# Altium integrated library Zilog Microprocessor 16-Bit.IntLib: 20 symbols
Pins are listed as number, name and electrical type; pins without a type are passive.

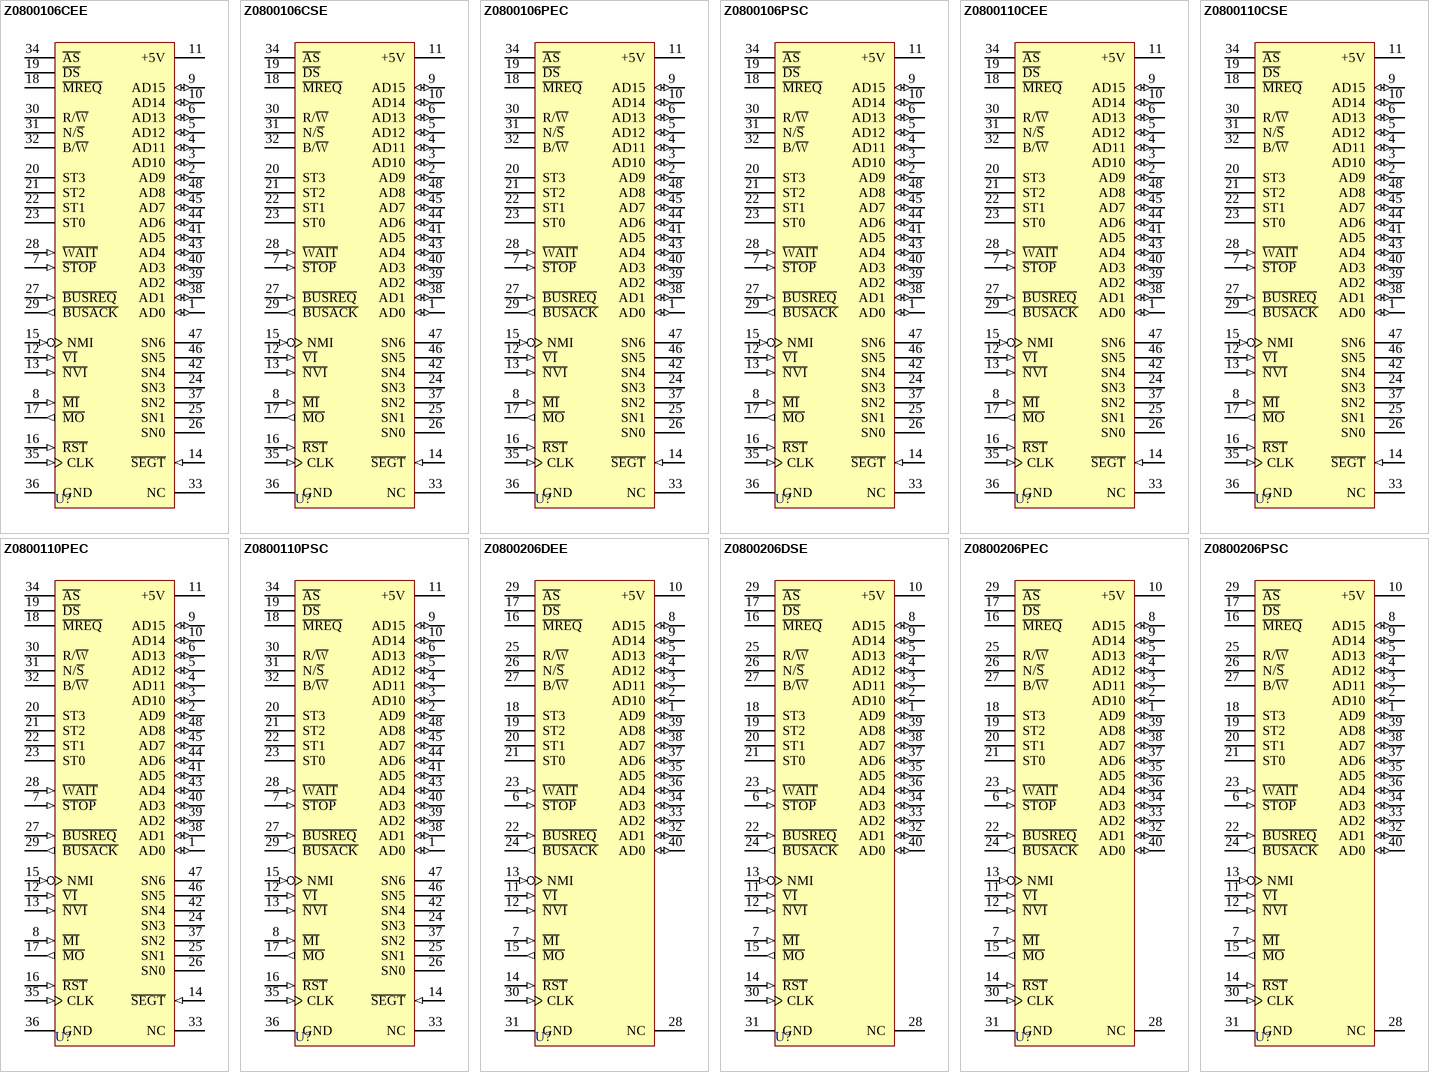
[diagram p0: symbols Z0800106CEE to Z0800206PSC]

## Z0800106CEE
designator U?
16-Bit Microprocessor; Published: 15-Apr-2002; LatestRevisionDate: 04-Mar-2005; LatestRevisionNote: Stylized 3D Model Added.; DatasheetVersion: Oct-1988; PackageVersion: 2001; PackageReference: CDIP48; Publisher: Altium Limited; PackageDescription: DIP; 48 Leads; Row Spacing 15.24 mm; Pitch 2.54 mm; ComponentLink1Description: Manufacturer Link; ComponentLink1URL: http://www.zilog.com/
footprint CDIP48 (DIP; 48 Leads; Row Spacing 15.24 mm; Pitch 2.54 mm)
3D model CDIP48 (DIP; 48 Leads; Row Spacing 15.24 mm; Pitch 2.54 mm)
pins: 1 AD0 (io), 2 AD9 (io), 3 AD10 (io), 4 AD11 (io), 5 AD12 (io), 6 AD13 (io), 7 ~{STOP} (in), 8 ~{MI} (in), 9 AD15 (io), 10 AD14 (io), 11 +5V (power), 12 ~{VI} (in), 13 ~{NVI} (in), 14 ~{SEGT} (in), 15 NMI (in), 16 ~{RST} (in), 17 ~{MO} (out), 18 ~{MREQ} (hiz), 19 ~{DS} (hiz), 20 ST3 (hiz), 21 ST2 (hiz), 22 ST1 (hiz), 23 ST0 (hiz), 24 SN3 (hiz), 25 SN1 (hiz), 26 SN0 (hiz), 27 ~{BUSREQ} (in), 28 ~{WAIT} (in), 29 ~{BUSACK} (out), 30 R/~{W} (hiz), 31 N/~{S} (hiz), 32 B/~{W} (hiz), 33 NC, 34 ~{AS} (hiz), 35 CLK (in), 36 GND (power), 37 SN2 (hiz), 38 AD1 (io), 39 AD2 (io), 40 AD3 (io), 41 AD5 (io), 42 SN4 (hiz), 43 AD4 (io), 44 AD6 (io), 45 AD7 (io), 46 SN5 (hiz), 47 SN6 (hiz), 48 AD8 (io)

## Z0800106CSE
designator U?
16-Bit Microprocessor; Published: 15-Apr-2002; LatestRevisionDate: 04-Mar-2005; LatestRevisionNote: Stylized 3D Model Added.; DatasheetVersion: Oct-1988; PackageVersion: 2001; PackageReference: CDIP48; Publisher: Altium Limited; PackageDescription: DIP; 48 Leads; Row Spacing 15.24 mm; Pitch 2.54 mm; ComponentLink1Description: Manufacturer Link; ComponentLink1URL: http://www.zilog.com/
footprint CDIP48 (DIP; 48 Leads; Row Spacing 15.24 mm; Pitch 2.54 mm)
3D model CDIP48 (DIP; 48 Leads; Row Spacing 15.24 mm; Pitch 2.54 mm)
pins: 1 AD0 (io), 2 AD9 (io), 3 AD10 (io), 4 AD11 (io), 5 AD12 (io), 6 AD13 (io), 7 ~{STOP} (in), 8 ~{MI} (in), 9 AD15 (io), 10 AD14 (io), 11 +5V (power), 12 ~{VI} (in), 13 ~{NVI} (in), 14 ~{SEGT} (in), 15 NMI (in), 16 ~{RST} (in), 17 ~{MO} (out), 18 ~{MREQ} (hiz), 19 ~{DS} (hiz), 20 ST3 (hiz), 21 ST2 (hiz), 22 ST1 (hiz), 23 ST0 (hiz), 24 SN3 (hiz), 25 SN1 (hiz), 26 SN0 (hiz), 27 ~{BUSREQ} (in), 28 ~{WAIT} (in), 29 ~{BUSACK} (out), 30 R/~{W} (hiz), 31 N/~{S} (hiz), 32 B/~{W} (hiz), 33 NC, 34 ~{AS} (hiz), 35 CLK (in), 36 GND (power), 37 SN2 (hiz), 38 AD1 (io), 39 AD2 (io), 40 AD3 (io), 41 AD5 (io), 42 SN4 (hiz), 43 AD4 (io), 44 AD6 (io), 45 AD7 (io), 46 SN5 (hiz), 47 SN6 (hiz), 48 AD8 (io)

## Z0800106PEC
designator U?
16-Bit Microprocessor; Published: 15-Apr-2002; LatestRevisionDate: 04-Mar-2005; LatestRevisionNote: Stylized 3D Model Added.; DatasheetVersion: Oct-1988; PackageVersion: 2001; PackageReference: PDIP48; Publisher: Altium Limited; PackageDescription: DIP; 48 Leads; Row Spacing 15.24 mm; Pitch 2.54 mm; ComponentLink1Description: Manufacturer Link; ComponentLink1URL: http://www.zilog.com/
footprint PDIP48 (DIP; 48 Leads; Row Spacing 15.24 mm; Pitch 2.54 mm)
3D model PDIP48 (DIP; 48 Leads; Row Spacing 15.24 mm; Pitch 2.54 mm)
pins: 1 AD0 (io), 2 AD9 (io), 3 AD10 (io), 4 AD11 (io), 5 AD12 (io), 6 AD13 (io), 7 ~{STOP} (in), 8 ~{MI} (in), 9 AD15 (io), 10 AD14 (io), 11 +5V (power), 12 ~{VI} (in), 13 ~{NVI} (in), 14 ~{SEGT} (in), 15 NMI (in), 16 ~{RST} (in), 17 ~{MO} (out), 18 ~{MREQ} (hiz), 19 ~{DS} (hiz), 20 ST3 (hiz), 21 ST2 (hiz), 22 ST1 (hiz), 23 ST0 (hiz), 24 SN3 (hiz), 25 SN1 (hiz), 26 SN0 (hiz), 27 ~{BUSREQ} (in), 28 ~{WAIT} (in), 29 ~{BUSACK} (out), 30 R/~{W} (hiz), 31 N/~{S} (hiz), 32 B/~{W} (hiz), 33 NC, 34 ~{AS} (hiz), 35 CLK (in), 36 GND (power), 37 SN2 (hiz), 38 AD1 (io), 39 AD2 (io), 40 AD3 (io), 41 AD5 (io), 42 SN4 (hiz), 43 AD4 (io), 44 AD6 (io), 45 AD7 (io), 46 SN5 (hiz), 47 SN6 (hiz), 48 AD8 (io)

## Z0800106PSC
designator U?
16-Bit Microprocessor; Published: 15-Apr-2002; LatestRevisionDate: 04-Mar-2005; LatestRevisionNote: Stylized 3D Model Added.; DatasheetVersion: Oct-1988; PackageVersion: 2001; PackageReference: PDIP48; Publisher: Altium Limited; PackageDescription: DIP; 48 Leads; Row Spacing 15.24 mm; Pitch 2.54 mm; ComponentLink1Description: Manufacturer Link; ComponentLink1URL: http://www.zilog.com/
footprint PDIP48 (DIP; 48 Leads; Row Spacing 15.24 mm; Pitch 2.54 mm)
3D model PDIP48 (DIP; 48 Leads; Row Spacing 15.24 mm; Pitch 2.54 mm)
pins: 1 AD0 (io), 2 AD9 (io), 3 AD10 (io), 4 AD11 (io), 5 AD12 (io), 6 AD13 (io), 7 ~{STOP} (in), 8 ~{MI} (in), 9 AD15 (io), 10 AD14 (io), 11 +5V (power), 12 ~{VI} (in), 13 ~{NVI} (in), 14 ~{SEGT} (in), 15 NMI (in), 16 ~{RST} (in), 17 ~{MO} (out), 18 ~{MREQ} (hiz), 19 ~{DS} (hiz), 20 ST3 (hiz), 21 ST2 (hiz), 22 ST1 (hiz), 23 ST0 (hiz), 24 SN3 (hiz), 25 SN1 (hiz), 26 SN0 (hiz), 27 ~{BUSREQ} (in), 28 ~{WAIT} (in), 29 ~{BUSACK} (out), 30 R/~{W} (hiz), 31 N/~{S} (hiz), 32 B/~{W} (hiz), 33 NC, 34 ~{AS} (hiz), 35 CLK (in), 36 GND (power), 37 SN2 (hiz), 38 AD1 (io), 39 AD2 (io), 40 AD3 (io), 41 AD5 (io), 42 SN4 (hiz), 43 AD4 (io), 44 AD6 (io), 45 AD7 (io), 46 SN5 (hiz), 47 SN6 (hiz), 48 AD8 (io)

## Z0800110CEE
designator U?
16-Bit Microprocessor; Published: 15-Apr-2002; LatestRevisionDate: 04-Mar-2005; LatestRevisionNote: Stylized 3D Model Added.; DatasheetVersion: Oct-1988; PackageVersion: 2001; PackageReference: CDIP48; Publisher: Altium Limited; PackageDescription: DIP; 48 Leads; Row Spacing 15.24 mm; Pitch 2.54 mm; ComponentLink1Description: Manufacturer Link; ComponentLink1URL: http://www.zilog.com/
footprint CDIP48 (DIP; 48 Leads; Row Spacing 15.24 mm; Pitch 2.54 mm)
3D model CDIP48 (DIP; 48 Leads; Row Spacing 15.24 mm; Pitch 2.54 mm)
pins: 1 AD0 (io), 2 AD9 (io), 3 AD10 (io), 4 AD11 (io), 5 AD12 (io), 6 AD13 (io), 7 ~{STOP} (in), 8 ~{MI} (in), 9 AD15 (io), 10 AD14 (io), 11 +5V (power), 12 ~{VI} (in), 13 ~{NVI} (in), 14 ~{SEGT} (in), 15 NMI (in), 16 ~{RST} (in), 17 ~{MO} (out), 18 ~{MREQ} (hiz), 19 ~{DS} (hiz), 20 ST3 (hiz), 21 ST2 (hiz), 22 ST1 (hiz), 23 ST0 (hiz), 24 SN3 (hiz), 25 SN1 (hiz), 26 SN0 (hiz), 27 ~{BUSREQ} (in), 28 ~{WAIT} (in), 29 ~{BUSACK} (out), 30 R/~{W} (hiz), 31 N/~{S} (hiz), 32 B/~{W} (hiz), 33 NC, 34 ~{AS} (hiz), 35 CLK (in), 36 GND (power), 37 SN2 (hiz), 38 AD1 (io), 39 AD2 (io), 40 AD3 (io), 41 AD5 (io), 42 SN4 (hiz), 43 AD4 (io), 44 AD6 (io), 45 AD7 (io), 46 SN5 (hiz), 47 SN6 (hiz), 48 AD8 (io)

## Z0800110CSE
designator U?
16-Bit Microprocessor; Published: 15-Apr-2002; LatestRevisionDate: 04-Mar-2005; LatestRevisionNote: Stylized 3D Model Added.; DatasheetVersion: Oct-1988; PackageVersion: 2001; PackageReference: CDIP48; Publisher: Altium Limited; PackageDescription: DIP; 48 Leads; Row Spacing 15.24 mm; Pitch 2.54 mm; ComponentLink1Description: Manufacturer Link; ComponentLink1URL: http://www.zilog.com/
footprint CDIP48 (DIP; 48 Leads; Row Spacing 15.24 mm; Pitch 2.54 mm)
3D model CDIP48 (DIP; 48 Leads; Row Spacing 15.24 mm; Pitch 2.54 mm)
pins: 1 AD0 (io), 2 AD9 (io), 3 AD10 (io), 4 AD11 (io), 5 AD12 (io), 6 AD13 (io), 7 ~{STOP} (in), 8 ~{MI} (in), 9 AD15 (io), 10 AD14 (io), 11 +5V (power), 12 ~{VI} (in), 13 ~{NVI} (in), 14 ~{SEGT} (in), 15 NMI (in), 16 ~{RST} (in), 17 ~{MO} (out), 18 ~{MREQ} (hiz), 19 ~{DS} (hiz), 20 ST3 (hiz), 21 ST2 (hiz), 22 ST1 (hiz), 23 ST0 (hiz), 24 SN3 (hiz), 25 SN1 (hiz), 26 SN0 (hiz), 27 ~{BUSREQ} (in), 28 ~{WAIT} (in), 29 ~{BUSACK} (out), 30 R/~{W} (hiz), 31 N/~{S} (hiz), 32 B/~{W} (hiz), 33 NC, 34 ~{AS} (hiz), 35 CLK (in), 36 GND (power), 37 SN2 (hiz), 38 AD1 (io), 39 AD2 (io), 40 AD3 (io), 41 AD5 (io), 42 SN4 (hiz), 43 AD4 (io), 44 AD6 (io), 45 AD7 (io), 46 SN5 (hiz), 47 SN6 (hiz), 48 AD8 (io)

## Z0800110PEC
designator U?
16-Bit Microprocessor; Published: 15-Apr-2002; LatestRevisionDate: 04-Mar-2005; LatestRevisionNote: Stylized 3D Model Added.; DatasheetVersion: Oct-1988; PackageVersion: 2001; PackageReference: PDIP48; Publisher: Altium Limited; PackageDescription: DIP; 48 Leads; Row Spacing 15.24 mm; Pitch 2.54 mm; ComponentLink1Description: Manufacturer Link; ComponentLink1URL: http://www.zilog.com/
footprint PDIP48 (DIP; 48 Leads; Row Spacing 15.24 mm; Pitch 2.54 mm)
3D model PDIP48 (DIP; 48 Leads; Row Spacing 15.24 mm; Pitch 2.54 mm)
pins: 1 AD0 (io), 2 AD9 (io), 3 AD10 (io), 4 AD11 (io), 5 AD12 (io), 6 AD13 (io), 7 ~{STOP} (in), 8 ~{MI} (in), 9 AD15 (io), 10 AD14 (io), 11 +5V (power), 12 ~{VI} (in), 13 ~{NVI} (in), 14 ~{SEGT} (in), 15 NMI (in), 16 ~{RST} (in), 17 ~{MO} (out), 18 ~{MREQ} (hiz), 19 ~{DS} (hiz), 20 ST3 (hiz), 21 ST2 (hiz), 22 ST1 (hiz), 23 ST0 (hiz), 24 SN3 (hiz), 25 SN1 (hiz), 26 SN0 (hiz), 27 ~{BUSREQ} (in), 28 ~{WAIT} (in), 29 ~{BUSACK} (out), 30 R/~{W} (hiz), 31 N/~{S} (hiz), 32 B/~{W} (hiz), 33 NC, 34 ~{AS} (hiz), 35 CLK (in), 36 GND (power), 37 SN2 (hiz), 38 AD1 (io), 39 AD2 (io), 40 AD3 (io), 41 AD5 (io), 42 SN4 (hiz), 43 AD4 (io), 44 AD6 (io), 45 AD7 (io), 46 SN5 (hiz), 47 SN6 (hiz), 48 AD8 (io)

## Z0800110PSC
designator U?
16-Bit Microprocessor; Published: 15-Apr-2002; LatestRevisionDate: 04-Mar-2005; LatestRevisionNote: Stylized 3D Model Added.; DatasheetVersion: Oct-1988; PackageVersion: 2001; PackageReference: PDIP48; Publisher: Altium Limited; PackageDescription: DIP; 48 Leads; Row Spacing 15.24 mm; Pitch 2.54 mm; ComponentLink1Description: Manufacturer Link; ComponentLink1URL: http://www.zilog.com/
footprint PDIP48 (DIP; 48 Leads; Row Spacing 15.24 mm; Pitch 2.54 mm)
3D model PDIP48 (DIP; 48 Leads; Row Spacing 15.24 mm; Pitch 2.54 mm)
pins: 1 AD0 (io), 2 AD9 (io), 3 AD10 (io), 4 AD11 (io), 5 AD12 (io), 6 AD13 (io), 7 ~{STOP} (in), 8 ~{MI} (in), 9 AD15 (io), 10 AD14 (io), 11 +5V (power), 12 ~{VI} (in), 13 ~{NVI} (in), 14 ~{SEGT} (in), 15 NMI (in), 16 ~{RST} (in), 17 ~{MO} (out), 18 ~{MREQ} (hiz), 19 ~{DS} (hiz), 20 ST3 (hiz), 21 ST2 (hiz), 22 ST1 (hiz), 23 ST0 (hiz), 24 SN3 (hiz), 25 SN1 (hiz), 26 SN0 (hiz), 27 ~{BUSREQ} (in), 28 ~{WAIT} (in), 29 ~{BUSACK} (out), 30 R/~{W} (hiz), 31 N/~{S} (hiz), 32 B/~{W} (hiz), 33 NC, 34 ~{AS} (hiz), 35 CLK (in), 36 GND (power), 37 SN2 (hiz), 38 AD1 (io), 39 AD2 (io), 40 AD3 (io), 41 AD5 (io), 42 SN4 (hiz), 43 AD4 (io), 44 AD6 (io), 45 AD7 (io), 46 SN5 (hiz), 47 SN6 (hiz), 48 AD8 (io)

## Z0800206DEE
designator U?
16-Bit Microprocessor; Published: 15-Apr-2002; LatestRevisionDate: 04-Mar-2005; LatestRevisionNote: Stylized 3D Model Added.; DatasheetVersion: Oct-1988; PackageVersion: 1999; PackageReference: CerDIP40; Publisher: Altium Limited; PackageDescription: DIP; 40 Leads; Row Spacing 15.24 mm; Pitch 2.54 mm; ComponentLink1Description: Manufacturer Link; ComponentLink1URL: http://www.zilog.com/
footprint CerDIP40 (DIP; 40 Leads; Row Spacing 15.24 mm; Pitch 2.54 mm)
3D model PDIP40 (DIP; 40 Leads; Row Spacing 15.24 mm; Pitch 2.54 mm)
pins: 1 AD9 (io), 2 AD10 (io), 3 AD11 (io), 4 AD12 (io), 5 AD13 (io), 6 ~{STOP} (in), 7 ~{MI} (in), 8 AD15 (io), 9 AD14 (io), 10 +5V (power), 11 ~{VI} (in), 12 ~{NVI} (in), 13 NMI (in), 14 ~{RST} (in), 15 ~{MO} (out), 16 ~{MREQ} (hiz), 17 ~{DS} (hiz), 18 ST3 (hiz), 19 ST2 (hiz), 20 ST1 (hiz), 21 ST0 (hiz), 22 ~{BUSREQ} (in), 23 ~{WAIT} (in), 24 ~{BUSACK} (out), 25 R/~{W} (hiz), 26 N/~{S} (hiz), 27 B/~{W} (hiz), 28 NC, 29 ~{AS} (hiz), 30 CLK (in), 31 GND (power), 32 AD1 (io), 33 AD2 (io), 34 AD3 (io), 35 AD5 (io), 36 AD4 (io), 37 AD6 (io), 38 AD7 (io), 39 AD8 (io), 40 AD0 (io)

## Z0800206DSE
designator U?
16-Bit Microprocessor; Published: 15-Apr-2002; LatestRevisionDate: 04-Mar-2005; LatestRevisionNote: Stylized 3D Model Added.; DatasheetVersion: Oct-1988; PackageVersion: 1999; PackageReference: CerDIP40; Publisher: Altium Limited; PackageDescription: DIP; 40 Leads; Row Spacing 15.24 mm; Pitch 2.54 mm; ComponentLink1Description: Manufacturer Link; ComponentLink1URL: http://www.zilog.com/
footprint CerDIP40 (DIP; 40 Leads; Row Spacing 15.24 mm; Pitch 2.54 mm)
3D model PDIP40 (DIP; 40 Leads; Row Spacing 15.24 mm; Pitch 2.54 mm)
pins: 1 AD9 (io), 2 AD10 (io), 3 AD11 (io), 4 AD12 (io), 5 AD13 (io), 6 ~{STOP} (in), 7 ~{MI} (in), 8 AD15 (io), 9 AD14 (io), 10 +5V (power), 11 ~{VI} (in), 12 ~{NVI} (in), 13 NMI (in), 14 ~{RST} (in), 15 ~{MO} (out), 16 ~{MREQ} (hiz), 17 ~{DS} (hiz), 18 ST3 (hiz), 19 ST2 (hiz), 20 ST1 (hiz), 21 ST0 (hiz), 22 ~{BUSREQ} (in), 23 ~{WAIT} (in), 24 ~{BUSACK} (out), 25 R/~{W} (hiz), 26 N/~{S} (hiz), 27 B/~{W} (hiz), 28 NC, 29 ~{AS} (hiz), 30 CLK (in), 31 GND (power), 32 AD1 (io), 33 AD2 (io), 34 AD3 (io), 35 AD5 (io), 36 AD4 (io), 37 AD6 (io), 38 AD7 (io), 39 AD8 (io), 40 AD0 (io)

## Z0800206PEC
designator U?
16-Bit Microprocessor; Published: 15-Apr-2002; LatestRevisionDate: 04-Mar-2005; LatestRevisionNote: Stylized 3D Model Added.; DatasheetVersion: Oct-1988; PackageVersion: Jun-1999; PackageReference: PDIP40; Publisher: Altium Limited; PackageDescription: DIP; 40 Leads; Row Spacing 15.24 mm; Pitch 2.54 mm; ComponentLink1Description: Manufacturer Link; ComponentLink1URL: http://www.zilog.com/
footprint PDIP40 (DIP; 40 Leads; Row Spacing 15.24 mm; Pitch 2.54 mm)
3D model PDIP40 (DIP; 40 Leads; Row Spacing 15.24 mm; Pitch 2.54 mm)
pins: 1 AD9 (io), 2 AD10 (io), 3 AD11 (io), 4 AD12 (io), 5 AD13 (io), 6 ~{STOP} (in), 7 ~{MI} (in), 8 AD15 (io), 9 AD14 (io), 10 +5V (power), 11 ~{VI} (in), 12 ~{NVI} (in), 13 NMI (in), 14 ~{RST} (in), 15 ~{MO} (out), 16 ~{MREQ} (hiz), 17 ~{DS} (hiz), 18 ST3 (hiz), 19 ST2 (hiz), 20 ST1 (hiz), 21 ST0 (hiz), 22 ~{BUSREQ} (in), 23 ~{WAIT} (in), 24 ~{BUSACK} (out), 25 R/~{W} (hiz), 26 N/~{S} (hiz), 27 B/~{W} (hiz), 28 NC, 29 ~{AS} (hiz), 30 CLK (in), 31 GND (power), 32 AD1 (io), 33 AD2 (io), 34 AD3 (io), 35 AD5 (io), 36 AD4 (io), 37 AD6 (io), 38 AD7 (io), 39 AD8 (io), 40 AD0 (io)

## Z0800206PSC
designator U?
16-Bit Microprocessor; Published: 15-Apr-2002; LatestRevisionDate: 04-Mar-2005; LatestRevisionNote: Stylized 3D Model Added.; DatasheetVersion: Oct-1988; PackageVersion: Jun-1999; PackageReference: PDIP40; Publisher: Altium Limited; PackageDescription: DIP; 40 Leads; Row Spacing 15.24 mm; Pitch 2.54 mm; ComponentLink1Description: Manufacturer Link; ComponentLink1URL: http://www.zilog.com/
footprint PDIP40 (DIP; 40 Leads; Row Spacing 15.24 mm; Pitch 2.54 mm)
3D model PDIP40 (DIP; 40 Leads; Row Spacing 15.24 mm; Pitch 2.54 mm)
pins: 1 AD9 (io), 2 AD10 (io), 3 AD11 (io), 4 AD12 (io), 5 AD13 (io), 6 ~{STOP} (in), 7 ~{MI} (in), 8 AD15 (io), 9 AD14 (io), 10 +5V (power), 11 ~{VI} (in), 12 ~{NVI} (in), 13 NMI (in), 14 ~{RST} (in), 15 ~{MO} (out), 16 ~{MREQ} (hiz), 17 ~{DS} (hiz), 18 ST3 (hiz), 19 ST2 (hiz), 20 ST1 (hiz), 21 ST0 (hiz), 22 ~{BUSREQ} (in), 23 ~{WAIT} (in), 24 ~{BUSACK} (out), 25 R/~{W} (hiz), 26 N/~{S} (hiz), 27 B/~{W} (hiz), 28 NC, 29 ~{AS} (hiz), 30 CLK (in), 31 GND (power), 32 AD1 (io), 33 AD2 (io), 34 AD3 (io), 35 AD5 (io), 36 AD4 (io), 37 AD6 (io), 38 AD7 (io), 39 AD8 (io), 40 AD0 (io)

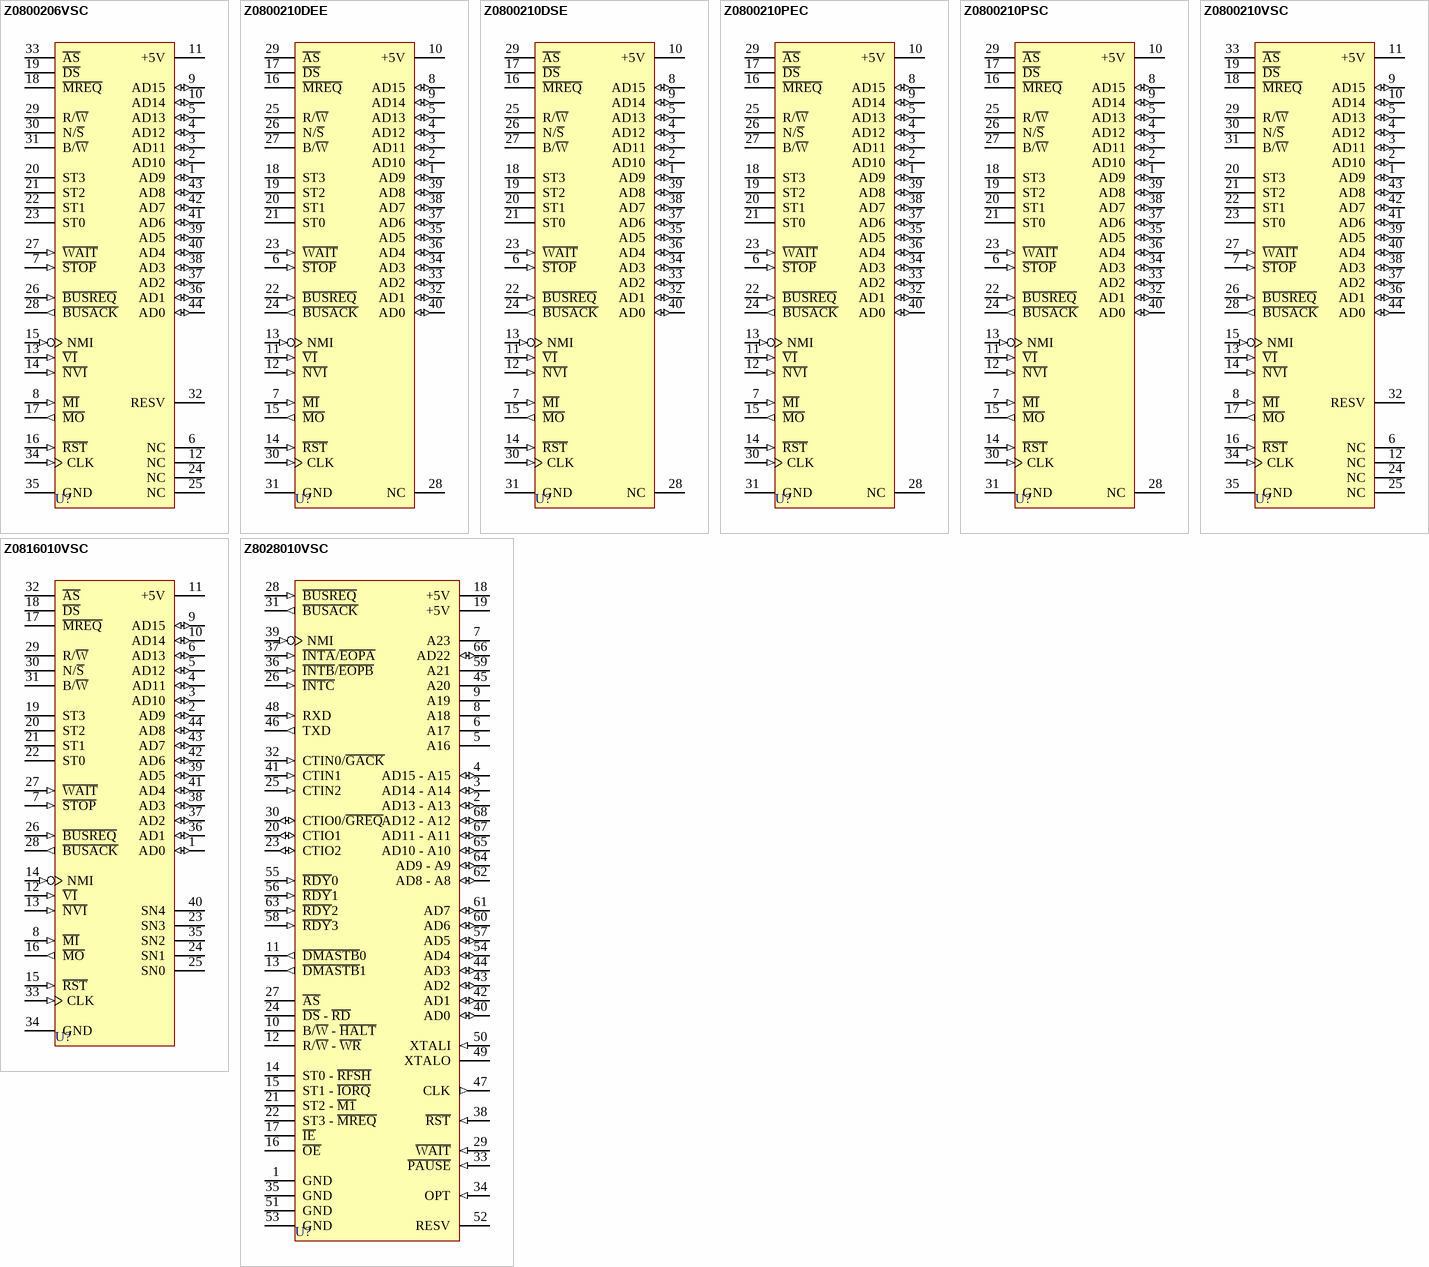
[diagram p1: symbols Z0800206VSC to Z8028010VSC]

## Z0800206VSC
designator U?
16-Bit Microprocessor; Published: 15-Apr-2002; LatestRevisionDate: 13-Apr-2006; LatestRevisionNote: IPC-7351 Footprint Added.; DatasheetVersion: Oct-1988; PackageReference: PCC44; Publisher: Altium Limited; PackageDescription: 44-Pin Leaded Chip Carrier 1.27 mm Pitch; Code_IPC: PLCC-44; ComponentLink1Description: Manufacturer Link; ComponentLink1URL: http://www.zilog.com/
footprint PCC44_N (Leaded Chip Carrier, 44-Leads, Body 16.6x16.6mm, Pitch 1.27mm, IPC Medium Density)
footprint PCC44_L (Leaded Chip Carrier, 44-Leads, Body 16.6x16.6mm, Pitch 1.27mm, IPC High Density)
footprint PCC44_M (Leaded Chip Carrier, 44-Leads, Body 16.6x16.6mm, Pitch 1.27mm, IPC Low Density)
3D model Z08002-PCC44 (44-Pin Leaded Chip Carrier 1.27 mm Pitch)
pins: 1 AD9 (io), 2 AD10 (io), 3 AD11 (io), 4 AD12 (io), 5 AD13 (io), 6 NC, 7 ~{STOP} (in), 8 ~{MI} (in), 9 AD15 (io), 10 AD14 (io), 11 +5V (power), 12 NC, 13 ~{VI} (in), 14 ~{NVI} (in), 15 NMI (in), 16 ~{RST} (in), 17 ~{MO} (out), 18 ~{MREQ} (hiz), 19 ~{DS} (hiz), 20 ST3 (hiz), 21 ST2 (hiz), 22 ST1 (hiz), 23 ST0 (hiz), 24 NC, 25 NC, 26 ~{BUSREQ} (in), 27 ~{WAIT} (in), 28 ~{BUSACK} (out), 29 R/~{W} (hiz), 30 N/~{S} (hiz), 31 B/~{W} (hiz), 32 RESV, 33 ~{AS} (hiz), 34 CLK (in), 35 GND (power), 36 AD1 (io), 37 AD2 (io), 38 AD3 (io), 39 AD5 (io), 40 AD4 (io), 41 AD6 (io), 42 AD7 (io), 43 AD8 (io), 44 AD0 (io)

## Z0800210DEE
designator U?
16-Bit Microprocessor; Published: 15-Apr-2002; LatestRevisionDate: 04-Mar-2005; LatestRevisionNote: Stylized 3D Model Added.; DatasheetVersion: Oct-1988; PackageVersion: 1999; PackageReference: CerDIP40; Publisher: Altium Limited; PackageDescription: DIP; 40 Leads; Row Spacing 15.24 mm; Pitch 2.54 mm; ComponentLink1Description: Manufacturer Link; ComponentLink1URL: http://www.zilog.com/
footprint CerDIP40 (DIP; 40 Leads; Row Spacing 15.24 mm; Pitch 2.54 mm)
3D model PDIP40 (DIP; 40 Leads; Row Spacing 15.24 mm; Pitch 2.54 mm)
pins: 1 AD9 (io), 2 AD10 (io), 3 AD11 (io), 4 AD12 (io), 5 AD13 (io), 6 ~{STOP} (in), 7 ~{MI} (in), 8 AD15 (io), 9 AD14 (io), 10 +5V (power), 11 ~{VI} (in), 12 ~{NVI} (in), 13 NMI (in), 14 ~{RST} (in), 15 ~{MO} (out), 16 ~{MREQ} (hiz), 17 ~{DS} (hiz), 18 ST3 (hiz), 19 ST2 (hiz), 20 ST1 (hiz), 21 ST0 (hiz), 22 ~{BUSREQ} (in), 23 ~{WAIT} (in), 24 ~{BUSACK} (out), 25 R/~{W} (hiz), 26 N/~{S} (hiz), 27 B/~{W} (hiz), 28 NC, 29 ~{AS} (hiz), 30 CLK (in), 31 GND (power), 32 AD1 (io), 33 AD2 (io), 34 AD3 (io), 35 AD5 (io), 36 AD4 (io), 37 AD6 (io), 38 AD7 (io), 39 AD8 (io), 40 AD0 (io)

## Z0800210DSE
designator U?
16-Bit Microprocessor; Published: 15-Apr-2002; LatestRevisionDate: 04-Mar-2005; LatestRevisionNote: Stylized 3D Model Added.; DatasheetVersion: Oct-1988; PackageVersion: 1999; PackageReference: CerDIP40; Publisher: Altium Limited; PackageDescription: DIP; 40 Leads; Row Spacing 15.24 mm; Pitch 2.54 mm; ComponentLink1Description: Manufacturer Link; ComponentLink1URL: http://www.zilog.com/
footprint CerDIP40 (DIP; 40 Leads; Row Spacing 15.24 mm; Pitch 2.54 mm)
3D model PDIP40 (DIP; 40 Leads; Row Spacing 15.24 mm; Pitch 2.54 mm)
pins: 1 AD9 (io), 2 AD10 (io), 3 AD11 (io), 4 AD12 (io), 5 AD13 (io), 6 ~{STOP} (in), 7 ~{MI} (in), 8 AD15 (io), 9 AD14 (io), 10 +5V (power), 11 ~{VI} (in), 12 ~{NVI} (in), 13 NMI (in), 14 ~{RST} (in), 15 ~{MO} (out), 16 ~{MREQ} (hiz), 17 ~{DS} (hiz), 18 ST3 (hiz), 19 ST2 (hiz), 20 ST1 (hiz), 21 ST0 (hiz), 22 ~{BUSREQ} (in), 23 ~{WAIT} (in), 24 ~{BUSACK} (out), 25 R/~{W} (hiz), 26 N/~{S} (hiz), 27 B/~{W} (hiz), 28 NC, 29 ~{AS} (hiz), 30 CLK (in), 31 GND (power), 32 AD1 (io), 33 AD2 (io), 34 AD3 (io), 35 AD5 (io), 36 AD4 (io), 37 AD6 (io), 38 AD7 (io), 39 AD8 (io), 40 AD0 (io)

## Z0800210PEC
designator U?
16-Bit Microprocessor; Published: 15-Apr-2002; LatestRevisionDate: 04-Mar-2005; LatestRevisionNote: Stylized 3D Model Added.; DatasheetVersion: Oct-1988; PackageVersion: Jun-1999; PackageReference: PDIP40; Publisher: Altium Limited; PackageDescription: DIP; 40 Leads; Row Spacing 15.24 mm; Pitch 2.54 mm; ComponentLink1Description: Manufacturer Link; ComponentLink1URL: http://www.zilog.com/
footprint PDIP40 (DIP; 40 Leads; Row Spacing 15.24 mm; Pitch 2.54 mm)
3D model PDIP40 (DIP; 40 Leads; Row Spacing 15.24 mm; Pitch 2.54 mm)
pins: 1 AD9 (io), 2 AD10 (io), 3 AD11 (io), 4 AD12 (io), 5 AD13 (io), 6 ~{STOP} (in), 7 ~{MI} (in), 8 AD15 (io), 9 AD14 (io), 10 +5V (power), 11 ~{VI} (in), 12 ~{NVI} (in), 13 NMI (in), 14 ~{RST} (in), 15 ~{MO} (out), 16 ~{MREQ} (hiz), 17 ~{DS} (hiz), 18 ST3 (hiz), 19 ST2 (hiz), 20 ST1 (hiz), 21 ST0 (hiz), 22 ~{BUSREQ} (in), 23 ~{WAIT} (in), 24 ~{BUSACK} (out), 25 R/~{W} (hiz), 26 N/~{S} (hiz), 27 B/~{W} (hiz), 28 NC, 29 ~{AS} (hiz), 30 CLK (in), 31 GND (power), 32 AD1 (io), 33 AD2 (io), 34 AD3 (io), 35 AD5 (io), 36 AD4 (io), 37 AD6 (io), 38 AD7 (io), 39 AD8 (io), 40 AD0 (io)

## Z0800210PSC
designator U?
16-Bit Microprocessor; Published: 15-Apr-2002; LatestRevisionDate: 04-Mar-2005; LatestRevisionNote: Stylized 3D Model Added.; DatasheetVersion: Oct-1988; PackageVersion: Jun-1999; PackageReference: PDIP40; Publisher: Altium Limited; PackageDescription: DIP; 40 Leads; Row Spacing 15.24 mm; Pitch 2.54 mm; ComponentLink1Description: Manufacturer Link; ComponentLink1URL: http://www.zilog.com/
footprint PDIP40 (DIP; 40 Leads; Row Spacing 15.24 mm; Pitch 2.54 mm)
3D model PDIP40 (DIP; 40 Leads; Row Spacing 15.24 mm; Pitch 2.54 mm)
pins: 1 AD9 (io), 2 AD10 (io), 3 AD11 (io), 4 AD12 (io), 5 AD13 (io), 6 ~{STOP} (in), 7 ~{MI} (in), 8 AD15 (io), 9 AD14 (io), 10 +5V (power), 11 ~{VI} (in), 12 ~{NVI} (in), 13 NMI (in), 14 ~{RST} (in), 15 ~{MO} (out), 16 ~{MREQ} (hiz), 17 ~{DS} (hiz), 18 ST3 (hiz), 19 ST2 (hiz), 20 ST1 (hiz), 21 ST0 (hiz), 22 ~{BUSREQ} (in), 23 ~{WAIT} (in), 24 ~{BUSACK} (out), 25 R/~{W} (hiz), 26 N/~{S} (hiz), 27 B/~{W} (hiz), 28 NC, 29 ~{AS} (hiz), 30 CLK (in), 31 GND (power), 32 AD1 (io), 33 AD2 (io), 34 AD3 (io), 35 AD5 (io), 36 AD4 (io), 37 AD6 (io), 38 AD7 (io), 39 AD8 (io), 40 AD0 (io)

## Z0800210VSC
designator U?
16-Bit Microprocessor; Published: 15-Apr-2002; LatestRevisionDate: 13-Apr-2006; LatestRevisionNote: IPC-7351 Footprint Added.; DatasheetVersion: Oct-1988; PackageReference: PCC44; Publisher: Altium Limited; PackageDescription: 44-Pin Leaded Chip Carrier 1.27 mm Pitch; Code_IPC: PLCC-44; ComponentLink1Description: Manufacturer Link; ComponentLink1URL: http://www.zilog.com/
footprint PCC44_N (Leaded Chip Carrier, 44-Leads, Body 16.6x16.6mm, Pitch 1.27mm, IPC Medium Density)
footprint PCC44_L (Leaded Chip Carrier, 44-Leads, Body 16.6x16.6mm, Pitch 1.27mm, IPC High Density)
footprint PCC44_M (Leaded Chip Carrier, 44-Leads, Body 16.6x16.6mm, Pitch 1.27mm, IPC Low Density)
3D model Z08002-PCC44 (44-Pin Leaded Chip Carrier 1.27 mm Pitch)
pins: 1 AD9 (io), 2 AD10 (io), 3 AD11 (io), 4 AD12 (io), 5 AD13 (io), 6 NC, 7 ~{STOP} (in), 8 ~{MI} (in), 9 AD15 (io), 10 AD14 (io), 11 +5V (power), 12 NC, 13 ~{VI} (in), 14 ~{NVI} (in), 15 NMI (in), 16 ~{RST} (in), 17 ~{MO} (out), 18 ~{MREQ} (hiz), 19 ~{DS} (hiz), 20 ST3 (hiz), 21 ST2 (hiz), 22 ST1 (hiz), 23 ST0 (hiz), 24 NC, 25 NC, 26 ~{BUSREQ} (in), 27 ~{WAIT} (in), 28 ~{BUSACK} (out), 29 R/~{W} (hiz), 30 N/~{S} (hiz), 31 B/~{W} (hiz), 32 RESV, 33 ~{AS} (hiz), 34 CLK (in), 35 GND (power), 36 AD1 (io), 37 AD2 (io), 38 AD3 (io), 39 AD5 (io), 40 AD4 (io), 41 AD6 (io), 42 AD7 (io), 43 AD8 (io), 44 AD0 (io)

## Z0816010VSC
designator U?
16-Bit Microprocessor; Published: 15-Apr-2002; LatestRevisionDate: 13-Apr-2006; LatestRevisionNote: IPC-7351 Footprint Added.; DatasheetVersion: Oct-1988; PackageReference: PCC44; Publisher: Altium Limited; PackageDescription: 44-Pin Leaded Chip Carrier 1.27 mm Pitch; Code_IPC: PLCC-44; ComponentLink1Description: Manufacturer Link; ComponentLink1URL: http://www.zilog.com/
footprint PCC44_N (Leaded Chip Carrier, 44-Leads, Body 16.6x16.6mm, Pitch 1.27mm, IPC Medium Density)
footprint PCC44_L (Leaded Chip Carrier, 44-Leads, Body 16.6x16.6mm, Pitch 1.27mm, IPC High Density)
footprint PCC44_M (Leaded Chip Carrier, 44-Leads, Body 16.6x16.6mm, Pitch 1.27mm, IPC Low Density)
3D model Z08160-PCC44 (44-Pin Leaded Chip Carrier 1.27 mm Pitch)
pins: 1 AD0 (io), 2 AD9 (io), 3 AD10 (io), 4 AD11 (io), 5 AD12 (io), 6 AD13 (io), 7 ~{STOP} (in), 8 ~{MI} (in), 9 AD15 (io), 10 AD14 (io), 11 +5V (power), 12 ~{VI} (in), 13 ~{NVI} (in), 14 NMI (in), 15 ~{RST} (in), 16 ~{MO} (out), 17 ~{MREQ} (hiz), 18 ~{DS} (hiz), 19 ST3 (hiz), 20 ST2 (hiz), 21 ST1 (hiz), 22 ST0 (hiz), 23 SN3 (hiz), 24 SN1 (hiz), 25 SN0 (hiz), 26 ~{BUSREQ} (in), 27 ~{WAIT} (in), 28 ~{BUSACK} (out), 29 R/~{W} (hiz), 30 N/~{S} (hiz), 31 B/~{W} (hiz), 32 ~{AS} (hiz), 33 CLK (in), 34 GND (power), 35 SN2 (hiz), 36 AD1 (io), 37 AD2 (io), 38 AD3 (io), 39 AD5 (io), 40 SN4 (hiz), 41 AD4 (io), 42 AD6 (io), 43 AD7 (io), 44 AD8 (io)

## Z8028010VSC
designator U?
16-Bit Z-BUS Microprocessor, with 8-Bit Z80 CPU compatible bus interface.; Published: 15-Apr-2002; LatestRevisionDate: 13-Apr-2006; LatestRevisionNote: IPC-7351 Footprint Added.; DatasheetVersion: Jan-1989; PackageReference: PCC68; Publisher: Altium Limited; PackageDescription: 68-Pin Leaded Chip Carrier 1.27 mm Pitch; Code_IPC: PLCC-68; ComponentLink1Description: Manufacturer Link; ComponentLink1URL: http://www.zilog.com/
footprint PCC68_N (Leaded Chip Carrier, 68-Leads, Body 24x24mm, Pitch 1.27mm, IPC Medium Density)
footprint PCC68_L (Leaded Chip Carrier, 68-Leads, Body 24x24mm, Pitch 1.27mm, IPC High Density)
footprint PCC68_M (Leaded Chip Carrier, 68-Leads, Body 24x24mm, Pitch 1.27mm, IPC Low Density)
3D model Z80280-PCC68 (68-Pin Leaded Chip Carrier 1.27 mm Pitch)
pins: 1 GND (power), 2 AD13 - A13 (io), 3 AD14 - A14 (io), 4 AD15 - A15 (io), 5 A16 (hiz), 6 A17 (hiz), 7 A23 (hiz), 8 A18 (hiz), 9 A19 (hiz), 10 B/~{W} - ~{HALT} (hiz), 11 ~{DMASTB}0 (out), 12 R/~{W} - ~{WR} (hiz), 13 ~{DMASTB}1 (out), 14 ST0 - ~{RFSH} (hiz), 15 ST1 - ~{IORQ} (hiz), 16 ~{OE} (hiz), 17 ~{IE} (hiz), 18 +5V (power), 19 +5V (power), 20 CTIO1 (io), 21 ST2 - ~{M1} (hiz), 22 ST3 - ~{MREQ} (hiz), 23 CTIO2 (io), 24 ~{DS} - ~{RD} (hiz), 25 CTIN2 (in), 26 ~{INTC} (in), 27 ~{AS} (hiz), 28 ~{BUSREQ} (in), 29 ~{WAIT} (in), 30 CTIO0/~{GREQ} (io), 31 ~{BUSACK} (out), 32 CTIN0/~{GACK} (in), 33 ~{PAUSE} (in), 34 OPT (in), 35 GND (power), 36 ~{INTB}/~{EOPB} (in), 37 ~{INTA}/~{EOPA} (in), 38 ~{RST} (in), 39 NMI (in), 40 AD0 (io), 41 CTIN1 (in), 42 AD1 (io), 43 AD2 (io), 44 AD3 (io), 45 A20 (hiz), 46 TXD (out), 47 CLK (out), 48 RXD (in), 49 XTALO, 50 XTALI (in), 51 GND (power), 52 RESV, 53 GND (power), 54 AD4 (io), 55 ~{RDY}0 (in), 56 ~{RDY}1 (in), 57 AD5 (io), 58 ~{RDY}3 (in), 59 A21 (hiz), 60 AD6 (io), 61 AD7 (io), 62 AD8 - A8 (io), 63 ~{RDY}2 (in), 64 AD9 - A9 (io), 65 AD10 - A10 (io), 66 AD22 (io), 67 AD11 - A11 (io), 68 AD12 - A12 (io)